# EAGLE library part HEADER-2X18P (library Deegou_Connector)
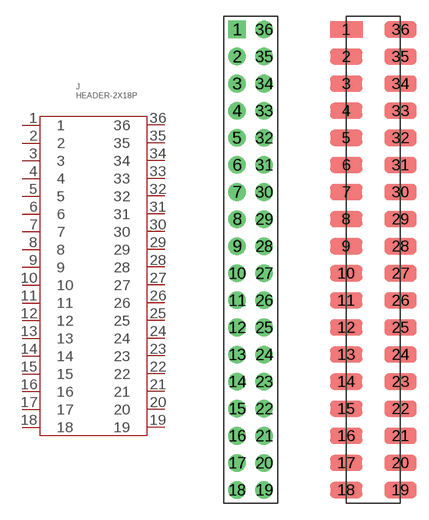
[diagram p48: symbol with the pads of 2X18P-2.54; footprints 2X18P-2.54, 2X18P-2.54-SMD]

Designator prefix J

## HEADER-2X18P-2.54  [2X18P-2.54]
1  1
2  2
3  3
4  4
5  5
6  6
7  7
8  8
9  9
10  10
11  11
12  12
13  13
14  14
15  15
16  16
17  17
18  18
19  19
20  20
21  21
22  22
23  23
24  24
25  25
26  26
27  27
28  28
29  29
30  30
31  31
32  32
33  33
34  34
35  35
36  36

## HEADER-2X18P-SMD  [2X18P-2.54-SMD]
Pads as for 2X18P-2.54

## Footprint 2X18P-2.54 (pad centres in mm)
drill 0.889 pad 1.651 square: 1 -1.27,21.59
drill 0.889 pad 1.651: 2 -1.27,19.05; 3 -1.27,16.51; 4 -1.27,13.97; 5 -1.27,11.43; 6 -1.27,8.89; 7 -1.27,6.35; 8 -1.27,3.81; 9 -1.27,1.27; 10 -1.27,-1.27; 11 -1.27,-3.81; 12 -1.27,-6.35; 13 -1.27,-8.89; 14 -1.27,-11.43; 15 -1.27,-13.97; 16 -1.27,-16.51; 17 -1.27,-19.05; 18 -1.27,-21.59; 19 1.27,-21.59; 20 1.27,-19.05; 21 1.27,-16.51; 22 1.27,-13.97; 23 1.27,-11.43; 24 1.27,-8.89; 25 1.27,-6.35; 26 1.27,-3.81; 27 1.27,-1.27; 28 1.27,1.27; 29 1.27,3.81; 30 1.27,6.35; 31 1.27,8.89; 32 1.27,11.43; 33 1.27,13.97; 34 1.27,16.51; 35 1.27,19.05; 36 1.27,21.59

## Footprint 2X18P-2.54-SMD (pad centres in mm)
smd 3.048 x 1.524: 1 0,0; 2 0,-2.54; 3 0,-5.08; 4 0,-7.62; 5 0,-10.16; 6 0,-12.7; 7 0,-15.24; 8 0,-17.78; 9 0,-20.32; 10 0,-22.86; 11 0,-25.4; 12 0,-27.94; 13 0,-30.48; 14 0,-33.02; 15 0,-35.56; 16 0,-38.1; 17 0,-40.64; 18 0,-43.18; 19 5.08,-43.18; 20 5.08,-40.64; 21 5.08,-38.1; 22 5.08,-35.56; 23 5.08,-33.02; 24 5.08,-30.48; 25 5.08,-27.94; 26 5.08,-25.4; 27 5.08,-22.86; 28 5.08,-20.32; 29 5.08,-17.78; 30 5.08,-15.24; 31 5.08,-12.7; 32 5.08,-10.16; 33 5.08,-7.62; 34 5.08,-5.08; 35 5.08,-2.54; 36 5.08,0